# Altium schematic symbol library LKAS_EPS.SchLib: 39 symbols (part 1 of 2)
Pins are listed as number, name and electrical type; pins without a type are passive.

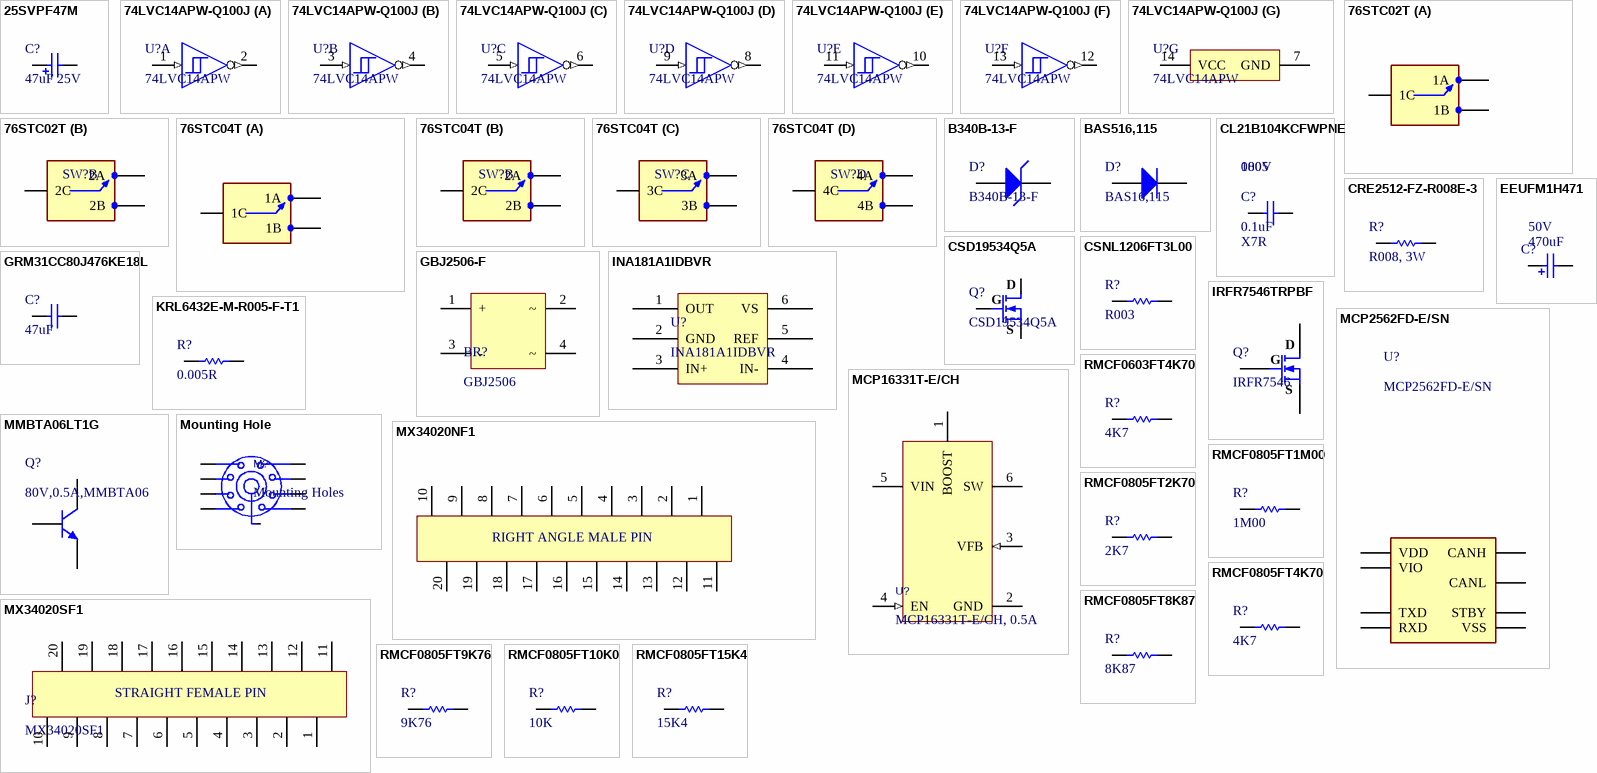
[diagram p0: symbols 25SVPF47M to RMCF0805FT15K4]

## 25SVPF47M
designator C?, comment 47uF 25V
Cap Aluminum Polymer 47uF 25VDC 20% (6.3 X 5.9mm) SMD 0.03 Ohm 2800mA 5000h 105C T/R; Manufacturer: Panasonic; Manufacturer Part Number: 25SVPF47M; ESR (Equivalent Series Resistance): 30mR; Ripple Current: 2.8A; Polarity: Polar; Leakage Current: 235uA; Life (Hours): 5000Hour; Dissipation Factor: 12%; Supplier 1: Digi-Key; RoHS: Yes; Category: Aluminum Electrolytic Capacitors; Stock 1: 4125; Pricing 1: 1=1.29000, 10=1.02200, 100=0.76620, 500=0.57888 (USD); Mount: Surface Mount; Case/Package: Radial; Number of Pins: 6; Min Operating Temperature: -55°C; Max Operating Temperature: 105°C; Capacitance: 47uF; Tolerance: 20%; Packaging: Tape and Reel; Package Quantity: 1; Voltage Rating: 25V; Ripple Current (AC): 2.8A; Voltage Rating (DC): 25V; Termination: SMD/SMT; Voltage: 25V; Diameter: 6.3mm; Length: 5.9mm; Height: 5.9mm; Height - Seated (Max): 0.236inch; REACH SVHC: No SVHC; ComponentLink1URL: https://datasheet.ciiva.com/48542/svpf-eng-ds-48542390.pdf?src-supplier=Distrelec; ComponentLink1Description: https://datasheet.ciiva.com/48542/svpf-eng-ds-48542390.pdf?src-supplier=Distrelec; ComponentLink2URL: https://datasheet.ciiva.com/22746/1734360-22746218.pdf?src-supplier=Element14; ComponentLink2Description: https://datasheet.ciiva.com/22746/1734360-22746218.pdf?src-supplier=Element14; ComponentLink3URL: https://datasheet.ciiva.com/24025/svpf-os-262415-24025725.pdf?src-supplier=Mouser; ComponentLink3Description: https://datasheet.ciiva.com/24025/svpf-os-262415-24025725.pdf?src-supplier=Mouser; ComponentLink4URL: https://datasheet.ciiva.com/25746/1734360-25746558.pdf?src-supplier=Farnell; ComponentLink4Description: https://datasheet.ciiva.com/25746/1734360-25746558.pdf?src-supplier=Farnell; Supplier Part Number 1: P16513CT-ND
footprint 25SVPF47M (C6 LAND PATTERN)
pins: 1, 2

## 74LVC14APW-Q100J
designator U?, comment 74LVC14APW
IC SCHMITT TRIG HEX INV 14TSSOP; Manufacturer: NXP Semiconductors; Manufacturer Part Number: 74LVC14APW-Q100J; Logic Function: Schmitt Trigger,Inverter; Low Level Output Current: 24mA; High Level Output Current: -24mA; Quiescent Current: 100nA; Propagation Delay: 14.7ns; Max Supply Voltage: 3.6V; Min Supply Voltage: 1.2V; Number of Elements: 6; Supplier 1: Digi-Key; Stock 1: 4855; Pricing 1: 1=0.36000, 10=0.29400, 25=0.26880, 100=0.20010, 250=0.18132, 500=0.15004, 1000=0.11254 (USD); RoHS: Yes; Mount: Surface Mount; Case/Package: TSSOP; Number of Pins: 14; Min Operating Temperature: -40°C; Max Operating Temperature: 125°C; Packaging: Tape and Reel; Radiation Hardening: No; Lead Free: Lead Free; ComponentLink1URL: https://datasheet.ciiva.com/15012/74lvc14a-q100-15012081.pdf?src-supplier=Digi-Key; ComponentLink1Description: https://datasheet.ciiva.com/15012/74lvc14a-q100-15012081.pdf?src-supplier=Digi-Key; Supplier Part Number 1: 1727-8412-1-ND
footprint TSOP65P640X110-14N (TSOP, 14-Leads, Body 5.00x4.40mm, Pitch 0.65mm, IPC Medium Density)
part A pins: 1 1A (in) "Input 1A", 2 ~{1Y} (out) "Output 1Y"
part B pins: 3 2A (in) "Input 2A", 4 ~{2Y} (out) "Output 2Y"
part C pins: 5 3A (in) "Input 3A", 6 ~{3Y} (out) "Output 3Y"
part D pins: 8 ~{4Y} (out) "Output 4Y", 9 4A (in) "Input 4A"
part E pins: 10 ~{5Y} (out) "Output 5Y", 11 5A (in) "Input 5A"
part F pins: 12 ~{6Y} (out) "Output 6Y", 13 6A (in) "Input 6A"
part G pins: 7 GND (power) "Ground Pin", 14 VCC (power) "Power Pin"

## 76STC02T
designator SW?  (value not drawn)
SWITCH TOGGLE DIP SPDT 150MA 30V / WIRED: / 1  2  3 / 4  5  6; Manufacturer: Grayhill; Body Material: Thermoplastic; Mechanical Life: 2000Cycles; Number of Positions: 4; Actuator Length: 5.08mm; Pitch: 0.1inch; Washable: No; Supplier 1: Digi-Key; Manufacturer Part Number: 76STC02T; RoHS: Yes; Category: DIP Switches; Stock 1: 149; Pricing 1: 1=4.74000, 10=4.54200, 25=4.14720, 100=3.59410, 250=3.25836, 500=3.02140, 1000=2.80417, 2500=2.54745, 5000=2.36972 (USD); Mount: Through Hole,PCB; Contact Material: Copper Alloy,Gold; Contact Plating: Gold; Min Operating Temperature: -40°C; Max Operating Temperature: 85°C; Throw Configuration: SPDT; Max Voltage Rating (DC): 30V; Termination: PC Pins; Packaging: Rail/Tube; Voltage Rating (DC): 30V; Max Current Rating: 150mA; Package Quantity: 13; Current Rating: 150mA; Electrical Life: 2000Cycles; Number of Circuits: 4; Contact Current Rating: 150mA; Voltage Rating: 30V; Actuator Type: Toggle; Orientation: Straight; Length: 0.78inch; Depth: 9.65mm; Radiation Hardening: No; REACH SVHC: No SVHC; Lead Free: Lead Free; ComponentLink1URL: https://datasheet.ciiva.com/16198/dip-series-76-and-78-spdt-16198550.pdf?src-supplier=Onlinecomponents.com; ComponentLink1Description: https://datasheet.ciiva.com/16198/dip-series-76-and-78-spdt-16198550.pdf?src-supplier=Onlinecomponents.com; ComponentLink2URL: https://datasheet.ciiva.com/2865/dip-series-76-and-78-spdt-2865964.pdf?src-supplier=Digi-Key; ComponentLink2Description: https://datasheet.ciiva.com/2865/dip-series-76-and-78-spdt-2865964.pdf?src-supplier=Digi-Key; Supplier Part Number 1: GH7721-ND
footprint 76STC02T (Footprint not found)
part A pins: 1A, 1B, C1 1C
part B pins: 2A, 2B, C2 2C

## 76STC04T
designator SW?  (value not drawn)
SWITCH TOGGLE DIP SPDT 150MA 30V / WIRED: / 1  2  3  4   5   6 / 7  8  9  10 11 12; Manufacturer: Grayhill; Body Material: Thermoplastic; Mechanical Life: 2000Cycles; Number of Positions: 4; Actuator Length: 5.08mm; Pitch: 0.1inch; Washable: No; Supplier 1: Digi-Key; Manufacturer Part Number: 76STC04T; RoHS: Yes; Category: DIP Switches; Stock 1: 149; Pricing 1: 1=4.74000, 10=4.54200, 25=4.14720, 100=3.59410, 250=3.25836, 500=3.02140, 1000=2.80417, 2500=2.54745, 5000=2.36972 (USD); Mount: Through Hole,PCB; Contact Material: Copper Alloy,Gold; Contact Plating: Gold; Min Operating Temperature: -40°C; Max Operating Temperature: 85°C; Throw Configuration: SPDT; Max Voltage Rating (DC): 30V; Termination: PC Pins; Packaging: Rail/Tube; Voltage Rating (DC): 30V; Max Current Rating: 150mA; Package Quantity: 13; Current Rating: 150mA; Electrical Life: 2000Cycles; Number of Circuits: 4; Contact Current Rating: 150mA; Voltage Rating: 30V; Actuator Type: Toggle; Orientation: Straight; Length: 0.78inch; Depth: 9.65mm; Radiation Hardening: No; REACH SVHC: No SVHC; Lead Free: Lead Free; ComponentLink1URL: https://datasheet.ciiva.com/16198/dip-series-76-and-78-spdt-16198550.pdf?src-supplier=Onlinecomponents.com; ComponentLink1Description: https://datasheet.ciiva.com/16198/dip-series-76-and-78-spdt-16198550.pdf?src-supplier=Onlinecomponents.com; ComponentLink2URL: https://datasheet.ciiva.com/2865/dip-series-76-and-78-spdt-2865964.pdf?src-supplier=Digi-Key; ComponentLink2Description: https://datasheet.ciiva.com/2865/dip-series-76-and-78-spdt-2865964.pdf?src-supplier=Digi-Key; Supplier Part Number 1: GH7721-ND
footprint 76STC04T (Switch Rocker Arm)
part A pins: 1A, 1B, C1 1C
part B pins: 2A, 2B, C2 2C
part C pins: 3A, 3B, C3 3C
part D pins: 4A, 4B, C4 4C

## B340B-13-F
designator D?
DIODE SCHOTTKY 40V 3A SMB; Manufacturer: Diodes; Element Configuration: Single; Peak Reverse Current: 500uA; Forward Voltage: 500mV; Peak Non-Repetitive Surge Current: 100A; Polarity: Standard; Capacitance: 250pF; Supplier 1: Digi-Key; Manufacturer Part Number: B340B-13-F; RoHS: Yes; Category: Schottky Diodes; Stock 1: 27829; Pricing 1: 1=0.48000, 10=0.39100, 25=0.35760, 100=0.22460, 250=0.22216, 500=0.20800, 1000=0.14144 (USD); Mount: Surface Mount; Case/Package: SMB; Number of Pins: 2; Weight: 0.00328oz; Min Operating Temperature: -55°C; Max Operating Temperature: 150°C; Forward Current: 3A; Max Repetitive Reverse Voltage (Vrrm): 40V; Packaging: Tape and Reel; Max Forward Surge Current (Ifsm): 100A; Package Quantity: 3000; Average Rectified Current: 3A; Termination: SMD/SMT; Voltage Rating (DC): 40V; Current Rating: 3A; Output Current: 3A; Max Reverse Voltage (DC): 40V; Length: 4.57mm; Height: 2.5mm; Width: 3.94mm; Radiation Hardening: No; REACH SVHC: No SVHC; Lead Free: Lead Free; ComponentLink1URL: https://datasheet.ciiva.com/26949/getdatasheetpartid-110980-26949353.pdf?src-supplier=Verical; ComponentLink1Description: https://datasheet.ciiva.com/26949/getdatasheetpartid-110980-26949353.pdf?src-supplier=Verical; ComponentLink2URL: https://datasheet.ciiva.com/25946/ds30924-25946951.pdf?src-supplier=Avnet+Europe; ComponentLink2Description: https://datasheet.ciiva.com/25946/ds30924-25946951.pdf?src-supplier=Avnet+Europe; ComponentLink3URL: https://datasheet.ciiva.com/16203/ds30924-16203765.pdf?src-supplier=Future+Electronics; ComponentLink3Description: https://datasheet.ciiva.com/16203/ds30924-16203765.pdf?src-supplier=Future+Electronics; Supplier Part Number 1: B340B-FDICT-ND
pins: 1 A, 2 K

## BAS516,115
designator D?, comment BAS16,115
DIODE GEN PURP 100V 250MA SOD523; Manufacturer: Nexperia; Manufacturer Part Number: BAS516,115; Supplier 1: Digi-Key; RoHS: No; Stock 1: 539674; Pricing 1: 1=0.21000, 10=0.17300, 100=0.07070, 500=0.05898, 1000=0.04098 (USD); ComponentLink1URL: http://www.farnell.com/datasheets/1856332.pdf?src-supplier=Farnell; ComponentLink1Description: http://www.farnell.com/datasheets/1856332.pdf?src-supplier=Farnell; ComponentLink2URL: https://assets.nexperia.com/documents/data-sheet/BAS16_SER.pdf?src-supplier=Digi-Key; ComponentLink2Description: https://assets.nexperia.com/documents/data-sheet/BAS16_SER.pdf?src-supplier=Digi-Key; Supplier Part Number 1: 1727-2893-1-ND
footprint BAS516,115
pins: 1 A, 2 K

## CL21B104KCFWPNE
designator C?, comment 0.1uF  Dielectric: X7R  Voltage Rating: 100V  Case Code (Imperial): 0805
CAP CER 0.1UF 100V X7R 0805; Manufacturer: Samsung; Manufacturer Part Number: CL21B104KCFWPNE; Capacitance: 100nF; Tolerance: 10%; Supplier 1: Digi-Key; Stock 1: 283289; Pricing 1: 1=0.16000, 10=0.11200, 100=0.05250, 500=0.03684, 1000=0.03050 (USD); RoHS: Yes; Mount: Surface Mount; Case/Package: 0805; Case Code (Metric): 2012; Min Operating Temperature: -55°C; Max Operating Temperature: 125°C; Packaging: Tape and Reel; Features: Soft Termination; Length: 0.079inch; Width: 0.049inch; Thickness: 0.053inch; Ratings: AEC-Q200; ComponentLink1URL: http://www.samsungsem.com/servlet/FileDownload?type=spec&file=CL21B104KCFWPNE.pdf&src-supplier=Avnet; ComponentLink1Description: http://www.samsungsem.com/servlet/FileDownload?type=spec&file=CL21B104KCFWPNE.pdf&src-supplier=Avnet; ComponentLink2URL: http://www.samsungsem.com/kr/support/product-search/mlcc/CL21B104KCFWPNE.jsp?src-supplier=Digi-Key; ComponentLink2Description: http://www.samsungsem.com/kr/support/product-search/mlcc/CL21B104KCFWPNE.jsp?src-supplier=Digi-Key; Supplier Part Number 1: 1276-6733-1-ND
footprint C0805
pins: 1, 2

## CRE2512-FZ-R008E-3
designator R?, comment R008, 3W
BOURNS   CRE2512-FZ-R008E-3   SMD Current Sense Resistor, AEC-Q200 CRE Series, 0.008 ohm, 3 W,  1%, 2512 [6432 Metric]; Resistance: 8mR; Temperature Coefficient: 75ppm/°C; Supplier 1: Digi-Key; Manufacturer: Bourns; Manufacturer Part Number: CRE2512-FZ-R008E-3; RoHS: Yes; Category: Chip SMD Resistors; Stock 1: 26966; Pricing 1: 1=0.81000, 10=0.70100, 25=0.61640, 50=0.56320, 100=0.48880, 250=0.42504, 500=0.35278, 1000=0.28690 (USD); Mount: Surface Mount; Case/Package: 2512; Case Code (Metric): 6432; Case Code (Imperial): 2512; Contact Plating: Tin; Min Operating Temperature: -55°C; Max Operating Temperature: 170°C; Power Rating: 3W; Tolerance: 1%; Packaging: Cut Tape; Composition: Metal Film,Metal Alloy,Thick Film; Number of Terminations: 2; Termination: Solder; Max Power Dissipation: 3W; Features: Moisture Resistant,Automotive AEC-Q200; Length: 0.254inch; Height: 0.035inch; Width: 0.132inch; Depth: 3.35mm; REACH SVHC: No SVHC; ComponentLink1URL: https://datasheet.ciiva.com/46424/1838634-46424810.pdf?src-supplier=Element14; ComponentLink1Description: https://datasheet.ciiva.com/46424/1838634-46424810.pdf?src-supplier=Element14; ComponentLink2URL: https://datasheet.ciiva.com/46424/1838634-46424811.pdf?src-supplier=Element14; ComponentLink2Description: https://datasheet.ciiva.com/46424/1838634-46424811.pdf?src-supplier=Element14; ComponentLink3URL: https://datasheet.ciiva.com/48532/cre-48532207.pdf?src-supplier=Avnet; ComponentLink3Description: https://datasheet.ciiva.com/48532/cre-48532207.pdf?src-supplier=Avnet; Supplier Part Number 1: CRE2512-FZ-R008E-3CT-ND
footprint R2512
pins: 1, 2

## CSD19534Q5A
designator Q?
MOSFET N-CH 100V 50 8SON; Manufacturer: Texas Instruments; Continuous Drain Current (ID): 50A; Rds On Max: 15.1mR; Input Capacitance: 1.68nF; Max Power Dissipation: 3.2W; Rise Time: 14ns; Gate to Source Voltage (Vgs): 20V; Fall Time: 6ns; Turn-On Delay Time: 9ns; Turn-Off Delay Time: 20ns; Element Configuration: Single; Supplier 1: Digi-Key; Manufacturer Part Number: CSD19534Q5A; RoHS: Yes; Category: MOSFETs; Stock 1: 38815; Pricing 1: 1=1.08000, 10=0.96900, 100=0.69000, 500=0.58486, 1000=0.47643 (USD); Mount: Surface Mount; Number of Pins: 8; Contact Plating: Tin; Min Operating Temperature: -55°C; Max Operating Temperature: 150°C; Packaging: Tape and Reel; Drain to Source Voltage (Vdss): 100V; Lead Free: Contains Lead; ComponentLink1URL: http://www.ti.com/general/docs/lit/getliterature.tsp?genericPartNumber=CSD19534Q5A&&fileType=pdf&src-supplier=Avnet; ComponentLink1Description: http://www.ti.com/general/docs/lit/getliterature.tsp?genericPartNumber=CSD19534Q5A&&fileType=pdf&src-supplier=Avnet; ComponentLink2URL: http://www.ti.com/lit/ds/symlink/csd19534q5a.pdf?src-supplier=Digi-Key; ComponentLink2Description: http://www.ti.com/lit/ds/symlink/csd19534q5a.pdf?src-supplier=Digi-Key; ComponentLink3URL: http://www.ti.com/lit/gpn/csd19534q5a?src-supplier=Mouser; ComponentLink3Description: http://www.ti.com/lit/gpn/csd19534q5a?src-supplier=Mouser; ComponentLink4URL: http://www.ti.com/general/docs/lit/getliterature.tsp?genericPartNumber=CSD19534Q5A&amp;&amp;fileType=pdf&src-supplier=Avnet+Asia; ComponentLink4Description: http://www.ti.com/general/docs/lit/getliterature.tsp?genericPartNumber=CSD19534Q5A&amp;&amp;fileType=pdf&src-supplier=Avnet+Asia; Supplier Part Number 1: 296-43636-1-ND
footprint SON 5 mm x 6mm (NEXTFET)
pins: 1 S, 2 S, 3 S, 4 G, 5 D, 6 D, 7 D, 8 D, 9 D

## CSNL1206FT3L00
designator R?, comment R003
RES 0.003 OHM 1% 1W 1206; Manufacturer: Stackpole Electronics; Manufacturer Part Number: CSNL1206FT3L00; Resistance: 3mR; Temperature Coefficient: 50ppm/°C; Supplier 1: Digi-Key; RoHS: Yes; Category: Chip SMD Resistors; Stock 1: 153428; Pricing 1: 1=0.68000, 10=0.56600, 25=0.48520, 50=0.43660, 100=0.38000, 250=0.33956, 500=0.27490, 1000=0.22234 (USD); Mount: Surface Mount; Case/Package: 1206; Case Code (Metric): 3216; Case Code (Imperial): 1206; Contact Plating: Tin,Matte; Min Operating Temperature: -55°C; Max Operating Temperature: 170°C; Power Rating: 1W; Tolerance: 1%; Packaging: Tape and Reel; Composition: Metal Foil; Number of Terminations: 2; Military Standard: Not; Max Power Dissipation: 1W; Features: Moisture Resistant; Length: 0.126inch; Height: 0.035inch; Width: 0.063inch; Depth: 1.6mm; Radiation Hardening: No; Lead Free: Lead Free; ComponentLink1URL: http://components.arrow.com/part/dataview/55793397S789987N1174?src-supplier=Arrow; ComponentLink1Description: http://components.arrow.com/part/dataview/55793397S789987N1174?src-supplier=Arrow; ComponentLink2URL: https://www.seielect.com/catalog/SEI-Packaging.pdf?src-supplier=Digi-Key; ComponentLink2Description: https://www.seielect.com/catalog/SEI-Packaging.pdf?src-supplier=Digi-Key; ComponentLink3URL: https://www.seielect.com/Catalog/SEI-CSNL.pdf?src-supplier=Avnet; ComponentLink3Description: https://www.seielect.com/Catalog/SEI-CSNL.pdf?src-supplier=Avnet; Supplier Part Number 1: CSNL1206FT3L00CT-ND
footprint R1206
pins: 1, 2

## EEUFM1H471
designator C?  Voltage Rating: 50V  Capacitance: 470uF  (hidden comment: EEUFM1H471)
PANASONIC - EEUFM1H471 - Aluminium Electrolytic Capacitor, FM Series, 470 - F, -  20%, 50 V, 12.5 mm, Radial Leaded RoHS Compliant: Yes; Ripple Current: 2.26A; Impedance: 22mR; Life (Hours): 5000Hour; Lead Diameter: 0.6mm; Lead Length: 17mm; Supplier 1: Digi-Key; Manufacturer: Panasonic; Manufacturer Part Number: EEUFM1H471; RoHS: Yes; Category: Aluminum Electrolytic Capacitors; Stock 1: 218018; Pricing 1: 1=0.24000 (USD); Mount: Through Hole,PCB; Case/Package: Radial; Contact Plating: Tin; Dielectric Material: Aluminium; Min Operating Temperature: -40°C; Max Operating Temperature: 105°C; Tolerance: 20%; Packaging: Bulk; Package Quantity: 200; Voltage Rating (DC): 50V; ESR (Equivalent Series Resistance): 22mR; Termination: Radial; Voltage: 50V; Features: General Purpose; Diameter: 12.5mm; Length: 20mm; Height: 20mm; Lead Pitch: 5mm; Height - Seated (Max): 0.787inch; Radiation Hardening: No; REACH SVHC: No SVHC; Lead Free: Lead Free; ComponentLink1URL: https://datasheet.ciiva.com/11782/0900766b805f3abe-11782027.pdf?src-supplier=RSComponents; ComponentLink1Description: https://datasheet.ciiva.com/11782/0900766b805f3abe-11782027.pdf?src-supplier=RSComponents; ComponentLink2URL: https://datasheet.ciiva.com/93/aba0000ce108-93877.pdf?src-supplier=Digi-Key; ComponentLink2Description: https://datasheet.ciiva.com/93/aba0000ce108-93877.pdf?src-supplier=Digi-Key; ComponentLink3URL: https://datasheet.ciiva.com/2984/aba0000ce108-2984070.pdf?src-supplier=Avnet; ComponentLink3Description: https://datasheet.ciiva.com/2984/aba0000ce108-2984070.pdf?src-supplier=Avnet; ComponentLink4URL: https://datasheet.ciiva.com/30242/aba0000ce108-30242264.pdf?src-supplier=Onlinecomponents.com; ComponentLink4Description: https://datasheet.ciiva.com/30242/aba0000ce108-30242264.pdf?src-supplier=Onlinecomponents.com; ComponentLink5URL: https://datasheet.ciiva.com/16427/aba0000ce108-16427385.pdf?src-supplier=Future+Electronics; ComponentLink5Description: https://datasheet.ciiva.com/16427/aba0000ce108-16427385.pdf?src-supplier=Future+Electronics; ComponentLink6URL: https://datasheet.ciiva.com/15166/getdatasheetpartid-169194-15166108.pdf?src-supplier=Verical; ComponentLink6Description: https://datasheet.ciiva.com/15166/getdatasheetpartid-169194-15166108.pdf?src-supplier=Verical; ComponentLink7URL: https://datasheet.ciiva.com/48542/eeufm-series-eng-tds-48542652.pdf?src-supplier=Distrelec; ComponentLink7Description: https://datasheet.ciiva.com/48542/eeufm-series-eng-tds-48542652.pdf?src-supplier=Distrelec; ComponentLink8URL: https://datasheet.ciiva.com/14588/70068540-14588461.pdf?src-supplier=Allied+Electronics; ComponentLink8Description: https://datasheet.ciiva.com/14588/70068540-14588461.pdf?src-supplier=Allied+Electronics; ComponentLink9URL: https://datasheet.ciiva.com/14594/70068540-14594126.pdf?src-supplier=Allied+Electronics; ComponentLink9Description: https://datasheet.ciiva.com/14594/70068540-14594126.pdf?src-supplier=Allied+Electronics; ComponentLink10URL: https://datasheet.ciiva.com/24240/a-e-461514-24240382.pdf?src-supplier=Mouser; ComponentLink10Description: https://datasheet.ciiva.com/24240/a-e-461514-24240382.pdf?src-supplier=Mouser; Supplier Part Number 1: P12400-ND
footprint CAP12.5X5
pins: 1, 2

## GBJ2506-F
designator BR?, comment GBJ2506
BRIDGE RECT 1PHASE 600V 25A GBJ; Manufacturer: Diodes; Manufacturer Part Number: GBJ2506-F; Peak Reverse Current: 10uA; Element Configuration: Single; Forward Voltage: 1.05V; Max Surge Current: 350A; Number of Elements: 1; Reverse Voltage (DC): 420V; Capacitance: 85pF; Supplier 1: Digi-Key; RoHS: Yes; Category: Rectifier Diodes; Stock 1: 5525; Pricing 1: 1=1.33000, 10=1.19200, 25=1.13120, 100=0.84840, 250=0.84032, 500=0.71912, 1000=0.58580, 2500=0.57772, 5000=0.52520 (USD); Mount: Through Hole; Number of Pins: 4; Min Operating Temperature: -65°C; Max Operating Temperature: 150°C; Forward Current: 25A; Max Repetitive Reverse Voltage (Vrrm): 600V; Packaging: Rail/Tube; Package Quantity: 15; Peak Non-Repetitive Surge Current: 350A; Max Forward Surge Current (Ifsm): 350A; Average Rectified Current: 25A; Termination: Through Hole; Current Rating: 25A; Voltage Rating (DC): 600V; Output Current: 25A; Current: 25A; Voltage: 600V; Length: 30.3mm; Height: 24.5mm; Width: 4.8mm; Radiation Hardening: No; REACH SVHC: No SVHC; Lead Free: Lead Free; ComponentLink1URL: https://datasheet.ciiva.com/885/ds21221-885937.pdf?src-supplier=Digi-Key; ComponentLink1Description: https://datasheet.ciiva.com/885/ds21221-885937.pdf?src-supplier=Digi-Key; ComponentLink2URL: https://datasheet.ciiva.com/885/ds21221-885937.pdf?src-supplier=Avnet; ComponentLink2Description: https://datasheet.ciiva.com/885/ds21221-885937.pdf?src-supplier=Avnet; ComponentLink3URL: https://datasheet.ciiva.com/27056/2042052-27056441.pdf?src-supplier=Jameco; ComponentLink3Description: https://datasheet.ciiva.com/27056/2042052-27056441.pdf?src-supplier=Jameco; ComponentLink4URL: https://datasheet.ciiva.com/26788/gbj2506-f-26788072.pdf?src-supplier=IIIC; ComponentLink4Description: https://datasheet.ciiva.com/26788/gbj2506-f-26788072.pdf?src-supplier=IIIC; ComponentLink5URL: https://datasheet.ciiva.com/4433/ds21221-82782-4433550.pdf?src-supplier=Mouser; ComponentLink5Description: https://datasheet.ciiva.com/4433/ds21221-82782-4433550.pdf?src-supplier=Mouser; ComponentLink6URL: https://datasheet.ciiva.com/15145/getdatasheetpartid-89805-15145253.pdf?src-supplier=Verical; ComponentLink6Description: https://datasheet.ciiva.com/15145/getdatasheetpartid-89805-15145253.pdf?src-supplier=Verical; ComponentLink7URL: https://datasheet.ciiva.com/16207/ds21221-16207229.pdf?src-supplier=Future+Electronics; ComponentLink7Description: https://datasheet.ciiva.com/16207/ds21221-16207229.pdf?src-supplier=Future+Electronics; ComponentLink8URL: https://datasheet.ciiva.com/25960/ds21221-25960590.pdf?src-supplier=Avnet+Europe; ComponentLink8Description: https://datasheet.ciiva.com/25960/ds21221-25960590.pdf?src-supplier=Avnet+Europe; Supplier Part Number 1: GBJ2506-FDI-ND
pins: 1 +, 2 ~, 3 -, 4 ~

## GRM31CC80J476KE18L
designator C?, comment 47uF
MURATA - GRM31CC80J476KE18L - CAP, 47µF, 6.3V, 10%, X6S, 1206; Supplier 1: Digi-Key; Manufacturer: Murata; Manufacturer Part Number: GRM31CC80J476KE18L; RoHS: Yes; Category: Ceramic Capacitors; Stock 1: 136311; Pricing 1: 1=0.77000, 10=0.56600, 100=0.38800, 500=0.30716, 1000=0.25867 (USD); Mount: Surface Mount; Case/Package: 1206; Case Code (Metric): 3216; Case Code (Imperial): 1206; Min Operating Temperature: -55°C; Max Operating Temperature: 105°C; Package Quantity: 1; Capacitance: 47uF; Voltage Rating: 6.3V; Tolerance: 10%; Packaging: Tape and Reel; Voltage Rating (DC): 6.3V; Dielectric: X6S; Termination: SMD/SMT; Voltage: 6.3V; Length: 3.2mm; Height: 1.6mm; Width: 0.063inch; Thickness: 0.071inch; Depth: 1.6mm; Radiation Hardening: No; REACH SVHC: No SVHC; ComponentLink1URL: https://datasheet.ciiva.com/11785/0900766b81023a1e-11785905.pdf?src-supplier=RSComponents; ComponentLink1Description: https://datasheet.ciiva.com/11785/0900766b81023a1e-11785905.pdf?src-supplier=RSComponents; ComponentLink2URL: https://datasheet.ciiva.com/29534/grm31cc80j476ke18-01-29534547.pdf?src-supplier=Digi-Key; ComponentLink2Description: https://datasheet.ciiva.com/29534/grm31cc80j476ke18-01-29534547.pdf?src-supplier=Digi-Key; ComponentLink3URL: https://datasheet.ciiva.com/13396/product-13396253.pdf?src-supplier=Mouser; ComponentLink3Description: https://datasheet.ciiva.com/13396/product-13396253.pdf?src-supplier=Mouser; ComponentLink4URL: https://datasheet.ciiva.com/29534/partnumbering-e-01-29534549.pdf?src-supplier=Digi-Key; ComponentLink4Description: https://datasheet.ciiva.com/29534/partnumbering-e-01-29534549.pdf?src-supplier=Digi-Key; Supplier Part Number 1: 490-8337-1-ND
footprint C1206 (capacitor 1206 reflow soldering)
pins: 1, 2

## INA181A1IDBVR
designator U?
Manufacturer: Texas Instruments; Supplier 1: Digi-Key; Manufacturer Part Number: INA181A1IDBVR; RoHS: No; Stock 1: 8139; Pricing 1: 1=0.65000, 10=0.56800, 25=0.53320, 100=0.40420, 250=0.34404, 500=0.32682, 1000=0.24941 (USD); Min Operating Temperature: -40°C; Max Operating Temperature: 125°C; ComponentLink1URL: http://www.ti.com/lit/ds/symlink/ina181.pdf?src-supplier=Digi-Key; ComponentLink1Description: http://www.ti.com/lit/ds/symlink/ina181.pdf?src-supplier=Digi-Key; Supplier Part Number 1: 296-47656-1-ND
footprint SOT95P280X110-6N (SOT23, 6-Leads, Body 2.90x2.80mm, Pitch 0.95mm, IPC Medium Density)
pins: 1 OUT, 2 GND, 3 IN+, 4 IN-, 5 REF, 6 VS

## IRFR7546TRPBF
designator Q?, comment IRFR7546
MOSFET, N CH, 60V, 56A, TO-252AA-3; Transistor Polarity:N Channel; Continuous Drain Current Id:56A; Drain Source Voltage Vds:60V; On Resistance Rds(on):0.0066ohm; Rds(on) Test Voltage Vgs:10V; Thresho; Manufacturer 1: International Rectifier; Manufacturer Part Number 1: IRFR7546TRPBF; Continuous Drain Current (ID): 71A; Max Power Dissipation: 99W; Rise Time: 28ns; Turn-On Delay Time: 8.1ns; Turn-Off Delay Time: 36ns; Fall Time: 20ns; Threshold Voltage: 3.7V; Gate to Source Voltage (Vgs): 20V; Element Configuration: Single; Number of Channels: 1; Drain to Source Resistance: 8.5mR; Supplier 1: Digi-Key; Stock 1: 5894; Pricing 1: 1=0.93000, 10=0.83200, 100=0.59220, 500=0.50198, 1000=0.40891 (USD); RoHS: Yes; Mount: Surface Mount; Case/Package: TO-252-3; Number of Pins: 3; Weight: 0.139332oz; Min Operating Temperature: -55°C; Max Operating Temperature: 175°C; Packaging: Tape and Reel; Drain to Source Voltage (Vdss): 60V; Lead Free: Lead Free; REACH SVHC: No SVHC; ComponentLink1URL: https://datasheet.ciiva.com/48532/irfr7546pbf-48532536.pdf?src-supplier=Avnet; ComponentLink1Description: https://datasheet.ciiva.com/48532/irfr7546pbf-48532536.pdf?src-supplier=Avnet; ComponentLink2URL: https://datasheet.ciiva.com/46449/1868662-46449099.pdf?src-supplier=Element14; ComponentLink2Description: https://datasheet.ciiva.com/46449/1868662-46449099.pdf?src-supplier=Element14; Supplier Part Number 1: IRFR7546TRPBFCT-ND
footprint DPAK229P991X239-3N (D-PAK, 3-Pads, Body 6.21x6.73mm (max), IPC Medium Density)
pins: 1 G, 2 S, 3 D

## KRL6432E-M-R005-F-T1
designator R?, comment 0.005R
RES SMD 5 MOHM 3W 2512 WIDE; Manufacturer 1: Susumu; Manufacturer Part Number 1: KRL6432E-M-R005-F-T1; Resistance: 5mR; Tolerance: 1%; Temperature Coefficient: 50ppm/°C; Supplier 1: Digi-Key; Stock 1: 17164; Pricing 1: 1=0.97000, 10=0.85900, 25=0.79000, 50=0.72080, 100=0.62370, 250=0.52668, 500=0.44352 (USD); RoHS: Yes; Case/Package: 6432; Weight: 0.001429oz; Case Code (Imperial): 2512; Case Code (Metric): 6432; Min Operating Temperature: -55°C; Max Operating Temperature: 155°C; Power Rating: 3W; Packaging: Tape and Reel; Package Quantity: 1; Termination: SMD/SMT; Composition: Metal Foil; Number of Terminations: 2; Max Power Dissipation: 3W; Features: Automotive AEC-Q200; Length: 0.122inch; Height: 0.028inch; Width: 3.1mm; ComponentLink1URL: http://www.mouser.com/ds/2/392/n_catalog_partition19_en-1114600.pdf?src-supplier=Mouser; ComponentLink1Description: http://www.mouser.com/ds/2/392/n_catalog_partition19_en-1114600.pdf?src-supplier=Mouser; ComponentLink2URL: http://www.susumu-usa.com/pdf/Foot_Print_21.pdf?src-supplier=Digi-Key; ComponentLink2Description: http://www.susumu-usa.com/pdf/Foot_Print_21.pdf?src-supplier=Digi-Key; ComponentLink3URL: http://www.susumu.co.jp/common/pdf/n_catalog_partition19_en.pdf?src-supplier=Digi-Key; ComponentLink3Description: http://www.susumu.co.jp/common/pdf/n_catalog_partition19_en.pdf?src-supplier=Digi-Key; Supplier Part Number 1: 408-1615-1-ND
footprint R2512
pins: 1, 2

## MCP2562FD-E/SN
designator U?
8 SOIC 3.90mm(.150in) TUBECAN Flexible Data Rate Transceiver; Manufacturer: Microchip; Supplier 1: Digi-Key; Manufacturer Part Number: MCP2562FD-E/SN; RoHS: Yes; Category: Interface ICs; Stock 1: 1433; Pricing 1: 1=0.96000, 25=0.80000, 100=0.73000 (USD); ComponentLink1URL: https://datasheet.ciiva.com/46406/1821190-46406053.pdf?src-supplier=Element14; ComponentLink1Description: https://datasheet.ciiva.com/46406/1821190-46406053.pdf?src-supplier=Element14; ComponentLink2URL: https://datasheet.ciiva.com/48512/mcp2562fd-e-mf-eng-tds-48512074.pdf?src-supplier=Distrelec; ComponentLink2Description: https://datasheet.ciiva.com/48512/mcp2562fd-e-mf-eng-tds-48512074.pdf?src-supplier=Distrelec; ComponentLink3URL: https://datasheet.ciiva.com/48473/20005284a-48473180.pdf?src-supplier=Avnet; ComponentLink3Description: https://datasheet.ciiva.com/48473/20005284a-48473180.pdf?src-supplier=Avnet; ComponentLink4URL: https://datasheet.ciiva.com/46406/1821190-46406061.pdf?src-supplier=Element14; ComponentLink4Description: https://datasheet.ciiva.com/46406/1821190-46406061.pdf?src-supplier=Element14; Supplier Part Number 1: MCP2562FD-E/SN-ND
footprint MCP2561 (SOIC 8 SN type)
pins: 1 TXD, 2 VSS, 3 VDD, 4 RXD, 5 VIO, 6 CANL, 7 CANH, 8 STBY

## MCP16331T-E/CH
designator U?, comment MCP16331T-E/CH, 0.5A
IC REG BUCK ADJ 0.5A SOT23-6; Manufacturer: Microchip; Number of Outputs: 1; Output Voltage: 24V; Min Input Voltage: 4.4V; Max Input Voltage: 50V; Efficiency: 96%; Switching Frequency: 500kHz; Min Output Voltage: 2V; Output Current: 500mA; Synchronous Rectifier: No; Max Output Current: 1.2A; Operating Supply Current: 1mA; Output Type: Adjustable; Output Configuration: Positive; Supplier 1: Newark; Manufacturer Part Number: MCP16331T-E/CH; Stock 1: 13050; Pricing 1: 1=1.34000, 10=1.23000, 25=1.12000, 50=1.07000, 100=1.02000 (USD); RoHS: Yes; Mount: Surface Mount; Case/Package: SOT-23-6; Number of Pins: 6; Weight: 0.00127oz; Min Operating Temperature: -40°C; Max Operating Temperature: 125°C; Packaging: Tape and Reel; Max Output Voltage: 24V; Package Quantity: 3000; Min Supply Voltage: 4.4V; Length: 3.1mm; Height: 1.3mm; Width: 1.8mm; Radiation Hardening: No; REACH SVHC: No SVHC; Lead Free: Lead Free; ComponentLink1URL: http://uk.rs-online.com/webdocs/135d/0900766b8135d295.pdf?src-supplier=RSComponents; ComponentLink1Description: http://uk.rs-online.com/webdocs/135d/0900766b8135d295.pdf?src-supplier=RSComponents; ComponentLink2URL: http://www.farnell.com/datasheets/2137887.pdf?src-supplier=Farnell; ComponentLink2Description: http://www.farnell.com/datasheets/2137887.pdf?src-supplier=Farnell; ComponentLink3URL: http://www.mouser.com/ds/2/268/20005308C-708938.pdf?src-supplier=Mouser; ComponentLink3Description: http://www.mouser.com/ds/2/268/20005308C-708938.pdf?src-supplier=Mouser; ComponentLink4URL: http://ww1.microchip.com/downloads/en/DeviceDoc/20005308A.pdf?src-supplier=Avnet; ComponentLink4Description: http://ww1.microchip.com/downloads/en/DeviceDoc/20005308A.pdf?src-supplier=Avnet; ComponentLink5URL: http://www.microchip.com/mymicrochip/filehandler.aspx?ddocname=en569798&src-supplier=Digi-Key; ComponentLink5Description: http://www.microchip.com/mymicrochip/filehandler.aspx?ddocname=en569798&src-supplier=Digi-Key; ComponentLink6URL: http://www.farnell.com/datasheets/2137887.pdf?src-supplier=Element14; ComponentLink6Description: http://www.farnell.com/datasheets/2137887.pdf?src-supplier=Element14; Supplier Part Number 1: 31Y2508
footprint MCHP-SOT23-6_V (SOT23, 6-Leads, Body 2.90x1.55mm, Pitch 0.95mm)
pins: 1 BOOST (power) "Boost voltage that drives the internal NMOS control switch. A bootstrap capacitor is connected between the BOOST and SW pins.", 2 GND (power) "Ground pin", 3 VFB (in) "Output voltage feedback pin. Connect VFB to an external resistor divider to set the output voltage.", 4 EN (in) "Enable pin. There is an internal pull up on the VIN. To turn the device off, connect EN to GND.", 5 VIN (power) "Input supply voltage pin for power and internal biasing.", 6 SW (power) "Output switch node, connects to the inductor, freewheeling diode and the bootstrap capacitor"

## MMBTA06LT1G
designator Q?, comment 80V,0.5A,MMBTA06
TRANS NPN 80V 0.5A SOT23; Manufacturer: ON Semiconductor; Manufacturer Part Number: MMBTA06LT1G; Max Power Dissipation: 225mW; Number of Elements: 1; Frequency: 100MHz; Emitter Base Voltage (VEBO): 4V; Collector Emitter Saturation Voltage: 250mV; Max Collector Current: 500mA; Power Dissipation: 300mW; Element Configuration: Single; hFE Min: 100; Supplier 1: Digi-Key; Stock 1: 502614; Pricing 1: 1=0.19000, 10=0.17000, 100=0.09230, 500=0.05682, 1000=0.03874 (USD); RoHS: Yes; Case/Package: SOT-23-3; Number of Pins: 3; Contact Plating: Tin,Matte; Min Operating Temperature: -55°C; Max Operating Temperature: 150°C; Package Quantity: 1; Collector Emitter Voltage (VCEO): 80V; Packaging: Tape and Reel; Polarity: NPN; Collector Base Voltage (VCBO): 80V; Collector Emitter Breakdown Voltage: 80V; Transition Frequency: 100MHz; Max Breakdown Voltage: 80V; Max Frequency: 100MHz; Gain Bandwidth Product: 100MHz; Voltage Rating (DC): 80V; Current Rating: 500mA; Length: 0.119inch; Height: 0.04inch; Width: 0.055inch; Radiation Hardening: No; REACH SVHC: No SVHC; Lead Free: Lead Free; ComponentLink1URL: https://datasheet.ciiva.com/4722/mmbta05lt1-d-101659-4722113.pdf?src-supplier=Mouser; ComponentLink1Description: https://datasheet.ciiva.com/4722/mmbta05lt1-d-101659-4722113.pdf?src-supplier=Mouser; ComponentLink2URL: https://datasheet.ciiva.com/15139/getdatasheetpartid-137838-15139444.pdf?src-supplier=Verical; ComponentLink2Description: https://datasheet.ciiva.com/15139/getdatasheetpartid-137838-15139444.pdf?src-supplier=Verical; ComponentLink3URL: https://datasheet.ciiva.com/11197/mmbta05lt1-d-11197414.pdf?src-supplier=Avnet; ComponentLink3Description: https://datasheet.ciiva.com/11197/mmbta05lt1-d-11197414.pdf?src-supplier=Avnet; ComponentLink4URL: https://datasheet.ciiva.com/976/mmbta05lt1-d-976473.pdf?src-supplier=Digi-Key; ComponentLink4Description: https://datasheet.ciiva.com/976/mmbta05lt1-d-976473.pdf?src-supplier=Digi-Key; ComponentLink5URL: https://datasheet.ciiva.com/976/mmbta05lt1-d-976474.pdf?src-supplier=Digi-Key; ComponentLink5Description: https://datasheet.ciiva.com/976/mmbta05lt1-d-976474.pdf?src-supplier=Digi-Key; ComponentLink6URL: https://datasheet.ciiva.com/25998/mmbta05lt1-d-25998830.pdf?src-supplier=Avnet+Europe; ComponentLink6Description: https://datasheet.ciiva.com/25998/mmbta05lt1-d-25998830.pdf?src-supplier=Avnet+Europe; ComponentLink7URL: https://datasheet.ciiva.com/16465/mmbta05lt1-d-16465685.pdf?src-supplier=Future+Electronics; ComponentLink7Description: https://datasheet.ciiva.com/16465/mmbta05lt1-d-16465685.pdf?src-supplier=Future+Electronics; ComponentLink8URL: https://datasheet.ciiva.com/11198/mmbta05lt1-d-11198678.pdf?src-supplier=Avnet; ComponentLink8Description: https://datasheet.ciiva.com/11198/mmbta05lt1-d-11198678.pdf?src-supplier=Avnet; ComponentLink9URL: https://datasheet.ciiva.com/976/mmbta05lt1-d-976475.pdf?src-supplier=Digi-Key; ComponentLink9Description: https://datasheet.ciiva.com/976/mmbta05lt1-d-976475.pdf?src-supplier=Digi-Key; ComponentLink10URL: https://datasheet.ciiva.com/7972/mmbta05lt1-d-7972078.pdf?src-supplier=Element14; ComponentLink10Description: https://datasheet.ciiva.com/7972/mmbta05lt1-d-7972078.pdf?src-supplier=Element14; ComponentLink11URL: https://datasheet.ciiva.com/16478/mmbta05lt1-d-16478574.pdf?src-supplier=Avnet+Asia; ComponentLink11Description: https://datasheet.ciiva.com/16478/mmbta05lt1-d-16478574.pdf?src-supplier=Avnet+Asia; Supplier Part Number 1: MMBTA06LT1GOSCT-ND
footprint ONSC-SOT-23-3-318-08_V (SOT23, 3-Leads, Body 2.92x1.3mm, Pitch 0.95mm)
pins: 1 B, 2 E, 3 C

## Mounting Hole
designator M?, comment Mounting Holes  (no BOM)
footprint Mounting Hole
pins: 1 GND0, 2 GND1, 3 GND2, 4 GND3, 5 GND4, 6 GND5, 7 GND6, 8 GND7, 9 HOLE

## MX34020NF1
designator J?
JAE MX34 Series, 2.2mm Pitch 20 Way 2 Row Right Angle PCB Header, Solder Termination, 3A; Manufacturer: JAE Electronics; Connector Type: Male Pin,Rectangular; Gender: Male; Number of Positions: 20; Pitch: 0.087inch; Row Spacing: 0.118inch; Supplier 1: Digi-Key; Manufacturer Part Number: MX34020NF1; RoHS: Yes; Category: Connectors; Stock 1: 10297; Pricing 1: 1=1.57000, 10=1.42100, 100=1.21800, 500=1.01500, 1000=0.87000, 5000=0.77140, 10000=0.75400 (USD); Mount: Through Hole; Contact Material: Brass; Contact Plating: Tin; Color: Grey; Number of Rows: 2; Package Quantity: 288; Packaging: Rail/Tube; Current Rating: 3A; Termination: Solder; Orientation: Right Angle; Number of Contacts: 20; Contact Mating Length: 0.303inch; REACH SVHC: No SVHC; ComponentLink1URL: https://datasheet.ciiva.com/7621/1009688-7621584.pdf?src-supplier=Element14; ComponentLink1Description: https://datasheet.ciiva.com/7621/1009688-7621584.pdf?src-supplier=Element14; ComponentLink2URL: https://datasheet.ciiva.com/4554/sj038751-3818-4554108.pdf?src-supplier=Mouser; ComponentLink2Description: https://datasheet.ciiva.com/4554/sj038751-3818-4554108.pdf?src-supplier=Mouser; ComponentLink3URL: https://datasheet.ciiva.com/11754/0900766b80ddc6f0-11754159.pdf?src-supplier=RSComponents; ComponentLink3Description: https://datasheet.ciiva.com/11754/0900766b80ddc6f0-11754159.pdf?src-supplier=RSComponents; ComponentLink4URL: https://datasheet.ciiva.com/732/transportation-pg-v2-2-732931.pdf?src-supplier=Digi-Key; ComponentLink4Description: https://datasheet.ciiva.com/732/transportation-pg-v2-2-732931.pdf?src-supplier=Digi-Key; Supplier Part Number 1: 670-2924-ND
footprint MX34020NF1 (Receptical with male pins)
pins: 1, 2, 3, 4, 5, 6, 7, 8, 9, 10, 11, 12, 13, 14, 15, 16, 17, 18, 19, 20
text: RIGHT ANGLE MALE PIN

## MX34020SF1
designator J?
Automotive Connectors Sckt HOUSING 20P; Manufacturer: JAE Electronics; Number of Positions: 20; Connector Type: Receptacle,Socket,Rectangular; Gender: Female; Current Rating: 3A; Pitch: 0.087inch; Row Spacing: 0.118inch; Supplier 1: Digi-Key; Manufacturer Part Number: MX34020SF1; RoHS: Yes; Category: Connectors; Stock 1: 3393; Pricing 1: 1=0.73000, 10=0.63800, 25=0.60000, 50=0.57500, 100=0.55000, 250=0.50000, 576=0.45000, 1152=0.40000, 2880=0.36250 (USD); Mount: Free Hanging,Cable; Color: Grey; Contact Plating: Tin; Contact Material: Copper Alloy,Copper; Housing Material: PPE; Min Operating Temperature: -40°C; Max Operating Temperature: 85°C; Termination: Crimp; Packaging: Tray; Package Quantity: 192; Number of Contacts: 20; Number of Rows: 2; Height: 14mm; Depth: 21.3mm; Width: 25.1mm; ComponentLink1URL: https://datasheet.ciiva.com/11742/0900766b80fc15d5-11742077.pdf?src-supplier=RSComponents; ComponentLink1Description: https://datasheet.ciiva.com/11742/0900766b80fc15d5-11742077.pdf?src-supplier=RSComponents; ComponentLink2URL: https://datasheet.ciiva.com/4553/sj038752-64597-4553699.pdf?src-supplier=Mouser; ComponentLink2Description: https://datasheet.ciiva.com/4553/sj038752-64597-4553699.pdf?src-supplier=Mouser; ComponentLink3URL: https://datasheet.ciiva.com/6739/614004-6739335.pdf?src-supplier=Newark; ComponentLink3Description: https://datasheet.ciiva.com/6739/614004-6739335.pdf?src-supplier=Newark; ComponentLink4URL: https://datasheet.ciiva.com/762/transportation-pg-v2-2-762885.pdf?src-supplier=Digi-Key; ComponentLink4Description: https://datasheet.ciiva.com/762/transportation-pg-v2-2-762885.pdf?src-supplier=Digi-Key; ComponentLink5URL: https://datasheet.ciiva.com/5821/1009688-5821398.pdf?src-supplier=Farnell; ComponentLink5Description: https://datasheet.ciiva.com/5821/1009688-5821398.pdf?src-supplier=Farnell; ComponentLink6URL: https://datasheet.ciiva.com/7648/1009712-7648886.pdf?src-supplier=Element14; ComponentLink6Description: https://datasheet.ciiva.com/7648/1009712-7648886.pdf?src-supplier=Element14; Supplier Part Number 1: 670-2925-ND
footprint MX34020SF1 (Plug without pins)
pins: 1, 2, 3, 4, 5, 6, 7, 8, 9, 10, 11, 12, 13, 14, 15, 16, 17, 18, 19, 20
text: STRAIGHT FEMALE PIN

## RMCF0603FT4K70
designator R?, comment 4K7
Res Thick Film 0603 4.7K Ohm 1% 1/10W 100ppm/C Molded SMD SMD Paper T/R; Manufacturer: Stackpole Electronics; Manufacturer Part Number: RMCF0603FT4K70; Max Power Dissipation: 100mW; Temperature Coefficient: 100ppm/°C; Resistance: 4.7kR; Supplier 1: Digi-Key; RoHS: Yes; Category: Chip SMD Resistors; Stock 1: 1530231; Pricing 1: 1=0.10000, 10=0.01500, 100=0.00590, 1000=0.00265, 2500=0.00230 (USD); Mount: Surface Mount; Case/Package: 0603; Contact Plating: Tin,Matte; Case Code (Imperial): 0603; Case Code (Metric): 1608; Min Operating Temperature: -55°C; Max Operating Temperature: 155°C; Packaging: Tape and Reel; Tolerance: 1%; Power Rating: 100mW; Features: Automotive AEC-Q200; Resistor Type: Thick Film; Number of Terminations: 2; Length: 1.55mm; Width: 0.031inch; Height: 0.022inch; Depth: 0.8mm; Radiation Hardening: No; Military Standard: Not; Lead Free: Lead Free; ComponentLink1URL: https://datasheet.ciiva.com/26835/getdatasheetpartid-486078-26835642.pdf?src-supplier=Verical; ComponentLink1Description: https://datasheet.ciiva.com/26835/getdatasheetpartid-486078-26835642.pdf?src-supplier=Verical; Supplier Part Number 1: RMCF0603FT4K70CT-ND
footprint R0603 (Footprint not found)
pins: 1, 2

## RMCF0805FT1M00
designator R?, comment 1M00
RES 1M OHM 1% 1/8W 0805; Manufacturer: Stackpole Electronics; Manufacturer Part Number: RMCF0805FT1M00; Resistance: 1MR; Power Rating: 125mW; Temperature Coefficient: 100ppm/°C; Supplier 1: Digi-Key; RoHS: Yes; Category: Chip SMD Resistors; Stock 1: 474817; Pricing 1: 1=0.10000, 10=0.02600, 100=0.01040, 1000=0.00466, 2500=0.00405 (USD); Mount: Surface Mount; Case/Package: 0805; Case Code (Metric): 2012; Case Code (Imperial): 0805; Contact Plating: Tin,Matte; Min Operating Temperature: -55°C; Max Operating Temperature: 155°C; Tolerance: 1%; Packaging: Tape and Reel; Composition: Thick Film; Number of Terminations: 2; Military Standard: Not; Max Power Dissipation: 125mW; Features: Automotive AEC-Q200; Length: 2mm; Height: 0.026inch; Width: 0.049inch; Depth: 1.25mm; Radiation Hardening: No; Lead Free: Lead Free; ComponentLink1URL: http://components.arrow.com/part/dataview/50575311S7171767N1174?src-supplier=Arrow; ComponentLink1Description: http://components.arrow.com/part/dataview/50575311S7171767N1174?src-supplier=Arrow; ComponentLink2URL: https://www.seielect.com/catalog/SEI-Packaging.pdf?src-supplier=Digi-Key; ComponentLink2Description: https://www.seielect.com/catalog/SEI-Packaging.pdf?src-supplier=Digi-Key; ComponentLink3URL: http://www.seielect.com/Catalog/SEI-rmc.pdf?src-supplier=Future+Electronics; ComponentLink3Description: http://www.seielect.com/Catalog/SEI-rmc.pdf?src-supplier=Future+Electronics; ComponentLink4URL: https://www.seielect.com/catalog/SEI-RMCF_RMCP.pdf?src-supplier=Avnet; ComponentLink4Description: https://www.seielect.com/catalog/SEI-RMCF_RMCP.pdf?src-supplier=Avnet; ComponentLink5URL: https://www.verical.com/server-webapp/html/getDatasheet?partID=366460&src-supplier=Verical; ComponentLink5Description: https://www.verical.com/server-webapp/html/getDatasheet?partID=366460&src-supplier=Verical; Supplier Part Number 1: RMCF0805FT1M00CT-ND
footprint R0805
pins: 1, 2

## RMCF0805FT2K70
designator R?, comment 2K7
RES SMD 2.7K OHM 1% 1/8W 0805; Manufacturer 1: Stackpole Electronics; Manufacturer Part Number 1: RMCF0805FT2K70; Resistance: 2.7kR; Max Power Dissipation: 125mW; Temperature Coefficient: 100ppm/°C; Supplier 1: Digi-Key; Stock 1: 20856; Pricing 1: 1=0.10000, 10=0.02600, 100=0.01040, 1000=0.00466, 2500=0.00405 (USD); RoHS: Yes; Mount: Surface Mount; Case/Package: 0805; Case Code (Metric): 2012; Case Code (Imperial): 0805; Contact Plating: Tin,Matte; Min Operating Temperature: -55°C; Max Operating Temperature: 155°C; Tolerance: 1%; Packaging: Tape and Reel; Composition: Thick Film; Number of Terminations: 2; Features: Automotive AEC-Q200; Length: 0.079inch; Height: 0.026inch; Width: 0.049inch; Radiation Hardening: No; ComponentLink1URL: http://components.arrow.com/part/dataview/46942443S7135515N1174?src-supplier=Arrow; ComponentLink1Description: http://components.arrow.com/part/dataview/46942443S7135515N1174?src-supplier=Arrow; ComponentLink2URL: https://www.seielect.com/Catalog/SEI-RMCF_RMCP.pdf?src-supplier=Digi-Key; ComponentLink2Description: https://www.seielect.com/Catalog/SEI-RMCF_RMCP.pdf?src-supplier=Digi-Key; ComponentLink3URL: https://www.seielect.com/catalog/SEI-RMCF_RMCP.pdf?src-supplier=Avnet; ComponentLink3Description: https://www.seielect.com/catalog/SEI-RMCF_RMCP.pdf?src-supplier=Avnet; ComponentLink4URL: https://www.seielect.com/catalog/SEI-Packaging.pdf?src-supplier=Digi-Key; ComponentLink4Description: https://www.seielect.com/catalog/SEI-Packaging.pdf?src-supplier=Digi-Key; Supplier Part Number 1: RMCF0805FT2K70CT-ND
footprint R0805
pins: 1, 2

## RMCF0805FT4K70
designator R?, comment 4K7
RES SMD 4.7K OHM 1% 1/8W 0805; Manufacturer: Stackpole Electronics; Manufacturer Part Number: RMCF0805FT4K70; Resistance: 4.7kR; Power Rating: 125mW; Temperature Coefficient: 100ppm/°C; Supplier 1: Digi-Key; Stock 1: 233318; Pricing 1: 1=0.10000, 10=0.02700, 100=0.01090, 1000=0.00490, 2500=0.00425 (USD); RoHS: Yes; Mount: Surface Mount; Case/Package: 0805; Case Code (Metric): 2012; Case Code (Imperial): 0805; Contact Plating: Tin,Matte; Min Operating Temperature: -55°C; Max Operating Temperature: 155°C; Tolerance: 1%; Packaging: Tape and Reel; Composition: Thick Film; Number of Terminations: 2; Military Standard: Not; Max Power Dissipation: 125mW; Features: Automotive AEC-Q200; Length: 2mm; Height: 0.026inch; Width: 0.049inch; Depth: 1.25mm; Radiation Hardening: No; Lead Free: Lead Free; ComponentLink1URL: http://www.seielect.com/catalog/sei-rmc.pdf?src-supplier=Future+Electronics; ComponentLink1Description: http://www.seielect.com/catalog/sei-rmc.pdf?src-supplier=Future+Electronics; ComponentLink2URL: http://components.arrow.com/part/dataview/44988207S7163511N1174?src-supplier=Arrow; ComponentLink2Description: http://components.arrow.com/part/dataview/44988207S7163511N1174?src-supplier=Arrow; ComponentLink3URL: https://www.seielect.com/catalog/SEI-RMCF_RMCP.pdf?src-supplier=Avnet; ComponentLink3Description: https://www.seielect.com/catalog/SEI-RMCF_RMCP.pdf?src-supplier=Avnet; ComponentLink4URL: https://www.seielect.com/Catalog/SEI-RMCF_RMCP.pdf?src-supplier=Digi-Key; ComponentLink4Description: https://www.seielect.com/Catalog/SEI-RMCF_RMCP.pdf?src-supplier=Digi-Key; ComponentLink5URL: https://www.seielect.com/catalog/SEI-Packaging.pdf?src-supplier=Digi-Key; ComponentLink5Description: https://www.seielect.com/catalog/SEI-Packaging.pdf?src-supplier=Digi-Key; ComponentLink6URL: https://www.verical.com/server-webapp/html/getDatasheet?partID=409513&src-supplier=Verical; ComponentLink6Description: https://www.verical.com/server-webapp/html/getDatasheet?partID=409513&src-supplier=Verical; Supplier Part Number 1: RMCF0805FT4K70CT-ND
footprint R0805
pins: 1, 2

## RMCF0805FT8K87
designator R?, comment 8K87
Res Thick Film 0805 8.87K Ohm 1% 1/8W ±100ppm/°C Molded SMD SMD Paper T/R; Manufacturer: Stackpole Electronics; Manufacturer Part Number: RMCF0805FT8K87; Resistance: 8.87kR; Max Power Dissipation: 125mW; Supplier 1: Digi-Key; RoHS: Yes; Category: Chip SMD Resistors; Stock 1: 5000; Pricing 1: 1=0.10000, 10=0.02600, 100=0.01040, 1000=0.00466, 2500=0.00405 (USD); Mount: Surface Mount; Case/Package: 0805; Case Code (Metric): 2012; Case Code (Imperial): 0805; Contact Plating: Tin,Matte; Min Operating Temperature: -55°C; Max Operating Temperature: 155°C; Packaging: Tape and Reel; Tolerance: 1%; Composition: Thick Film; Number of Terminations: 2; Military Standard: Not; Temperature Coefficient: 100ppm/°C; Features: Automotive AEC-Q200; Length: 0.079inch; Height: 0.026inch; Width: 0.049inch; Depth: 1.25mm; Radiation Hardening: No; ComponentLink1URL: http://components.arrow.com/part/dataview/40963981S7455078N1174?src-supplier=Arrow; ComponentLink1Description: http://components.arrow.com/part/dataview/40963981S7455078N1174?src-supplier=Arrow; ComponentLink2URL: https://www.seielect.com/catalog/SEI-RMCF_RMCP.pdf?src-supplier=Avnet; ComponentLink2Description: https://www.seielect.com/catalog/SEI-RMCF_RMCP.pdf?src-supplier=Avnet; ComponentLink3URL: https://www.seielect.com/Catalog/SEI-RMCF_RMCP.pdf?src-supplier=Digi-Key; ComponentLink3Description: https://www.seielect.com/Catalog/SEI-RMCF_RMCP.pdf?src-supplier=Digi-Key; ComponentLink4URL: https://www.seielect.com/catalog/SEI-Packaging.pdf?src-supplier=Digi-Key; ComponentLink4Description: https://www.seielect.com/catalog/SEI-Packaging.pdf?src-supplier=Digi-Key; ComponentLink5URL: https://www.verical.com/server-webapp/html/getDatasheet?partID=707645&src-supplier=Verical; ComponentLink5Description: https://www.verical.com/server-webapp/html/getDatasheet?partID=707645&src-supplier=Verical; Supplier Part Number 1: RMCF0805FT8K87CT-ND
footprint R0805
pins: 1, 2